# EAGLE library part WT21-VISUAL-N (library sf-bluegiga)
Bluegiga WT21 class 1 Bluetooth HCI module - Bluetooth 2.1 + EDR. WT21-N variant has SMD pads for RF output. See datasheet for variant layout details. The WT21 is an integrated Bluetooth 2.1 + EDR HCI module intended for Bluetooth applications where a host processor is capable of running the Bluetooth stack software. It contains a Bluetooth radio, antenna, and the low level Bluetooth Host Controller Interface (HCI) software, but still offers the benefits of a module with easy, risk-free implementation and qualifications. The WT21 is based on a CSR’s BlueCore-6 chip and offers the lowest current consumption and the highest integration level in its class. The WT21 is compatible with Windows, Windows CE, and Linux operating systems while combined with Bluegiga's excellent technical support designers ensure quick time-to-market, and low development costs and risks. http://www.bluegiga.com/en-US/products/bluetooth-classic-modules/wt21-bluetooth-hci-module https://github.com/jrowberg/sf-oshw Last updated 2014-01-04 by Jeff Rowberg <jeff@rowberg.net>
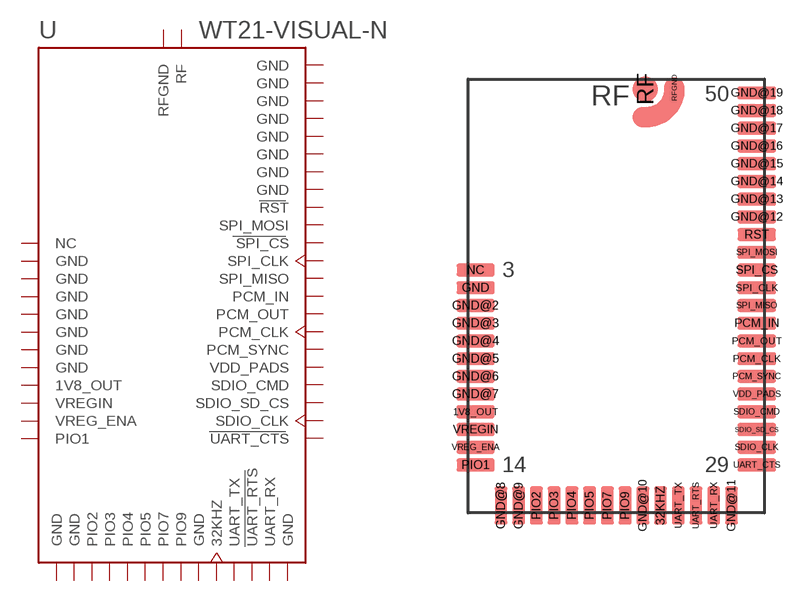
[diagram p12: symbol with the pads of WT21-N; footprint WT21-N]

Designator prefix U

## WT21-VISUAL-N (ANTENNA: SMD RF pads)  [WT21-N]
1V8_OUT  1V8_OUT  out
32KHZ  32KHZ  in
GND  GND  pwr
GND@2  GND  pwr
GND@3  GND  pwr
GND@4  GND  pwr
GND@5  GND  pwr
GND@6  GND  pwr
GND@7  GND  pwr
GND@8  GND  pwr
GND@9  GND  pwr
GND@10  GND  pwr
GND@11  GND  pwr
GND@12  GND  pwr
GND@13  GND  pwr
GND@14  GND  pwr
GND@15  GND  pwr
GND@16  GND  pwr
GND@17  GND  pwr
GND@18  GND  pwr
GND@19  GND  pwr
NC  NC  nc
PCM_CLK  PCM_CLK
PCM_IN  PCM_IN  in
PCM_OUT  PCM_OUT  out
PCM_SYNC  PCM_SYNC
PIO1  PIO1
PIO2  PIO2
PIO3  PIO3
PIO4  PIO4
PIO5  PIO5
PIO7  PIO7
PIO9  PIO9
RF  RF
RFGND  RFGND
RST  RST  in
SDIO_CLK  SDIO_CLK
SDIO_CMD  SDIO_CMD  in
SDIO_SD_CS  SDIO_SD_CS  in
SPI_CLK  SPI_CLK
SPI_CS  SPI_CS  in
SPI_MISO  SPI_MISO  out
SPI_MOSI  SPI_MOSI  in
UART_CTS  UART_CTS  in
UART_RTS  UART_RTS  out
UART_RX  UART_RX  in
UART_TX  UART_TX  out
VDD_PADS  VDD_PADS  pwr
VREG_ENA  VREG_ENA  in
VREGIN  VREGIN  in

## Footprint WT21-N (pad centres in mm)
Bluegiga WT21 class 1 Bluetooth HCI module - Bluetooth 2.1 + EDR. WT21-N variant has SMD pads for RF output. See datasheet for variant layout details. The WT21 is an integrated Bluetooth 2.1 + EDR HCI module intended for Bluetooth applications where a host processor is capable of running the Bluetooth stack software. It contains a Bluetooth radio, antenna, and the low level Bluetooth Host Controller Interface (HCI) software, but still offers the benefits of a module with easy, risk-free implementation and qualifications. The WT21 is based on a CSR’s BlueCore-6 chip and offers the lowest current consumption and the highest integration level in its class. The WT21 is compatible with Windows, Windows CE, and Linux operating systems while combined with Bluegiga's excellent technical support designers ensure quick time-to-market, and low development costs and risks. http://www.bluegiga.com/en-US/products/bluetooth-classic-modules/wt21-bluetooth-hci-module https://github.com/jrowberg/sf-oshw Last updated 2014-01-04 by Jeff Rowberg <jeff@rowberg.net>
smd 1.5 x 0.5: 1V8_OUT -5.55,-4.6; GND -5.55,0.3; GND@2 -5.55,-0.4; GND@3 -5.55,-1.1; GND@4 -5.55,-1.8; GND@5 -5.55,-2.5; GND@6 -5.55,-3.2; GND@7 -5.55,-3.9; GND@12 5.55,3.1; GND@13 5.55,3.8; GND@14 5.55,4.5; GND@15 5.55,5.2; GND@16 5.55,5.9; GND@17 5.55,6.6; GND@18 5.55,7.3; GND@19 5.55,8; NC -5.55,1; PCM_CLK 5.55,-2.5; PCM_IN 5.55,-1.1; PCM_OUT 5.55,-1.8; PCM_SYNC 5.55,-3.2; PIO1 -5.55,-6.7; RST 5.55,2.4; SDIO_CLK 5.55,-6; SDIO_CMD 5.55,-4.6; SDIO_SD_CS 5.55,-5.3; SPI_CLK 5.55,0.3; SPI_CS 5.55,1; SPI_MISO 5.55,-0.4; SPI_MOSI 5.55,1.7; UART_CTS 5.55,-6.7; VDD_PADS 5.55,-3.9; VREG_ENA -5.55,-6; VREGIN -5.55,-5.3
smd 0.5 x 1.5: 32KHZ 1.75,-8.3; GND@8 -4.55,-8.3; GND@9 -3.85,-8.3; GND@10 1.05,-8.3; GND@11 4.55,-8.3; PIO2 -3.15,-8.3; PIO3 -2.45,-8.3; PIO4 -1.75,-8.3; PIO5 -1.05,-8.3; PIO7 -0.35,-8.3; PIO9 0.35,-8.3; UART_RTS 3.15,-8.3; UART_RX 3.85,-8.3; UART_TX 2.45,-8.3
smd 1 x 1: RF 1.15,8.15
smd 0.8 x 0.8: RFGND 2.3,8.2